# Altium footprint library 新主控制.PcbLib: 56 footprints (part 1 of 4)
Each footprint in its own frame and in the unit in brackets; x right, y up, seen from the top. Pads: shape width x height; smd on the part's side, far side on the other; paste and mask are expansions set on the pad; w line width, h text height; cw(c..) or ccw(c..) is an arc to the next point about the centre after c.
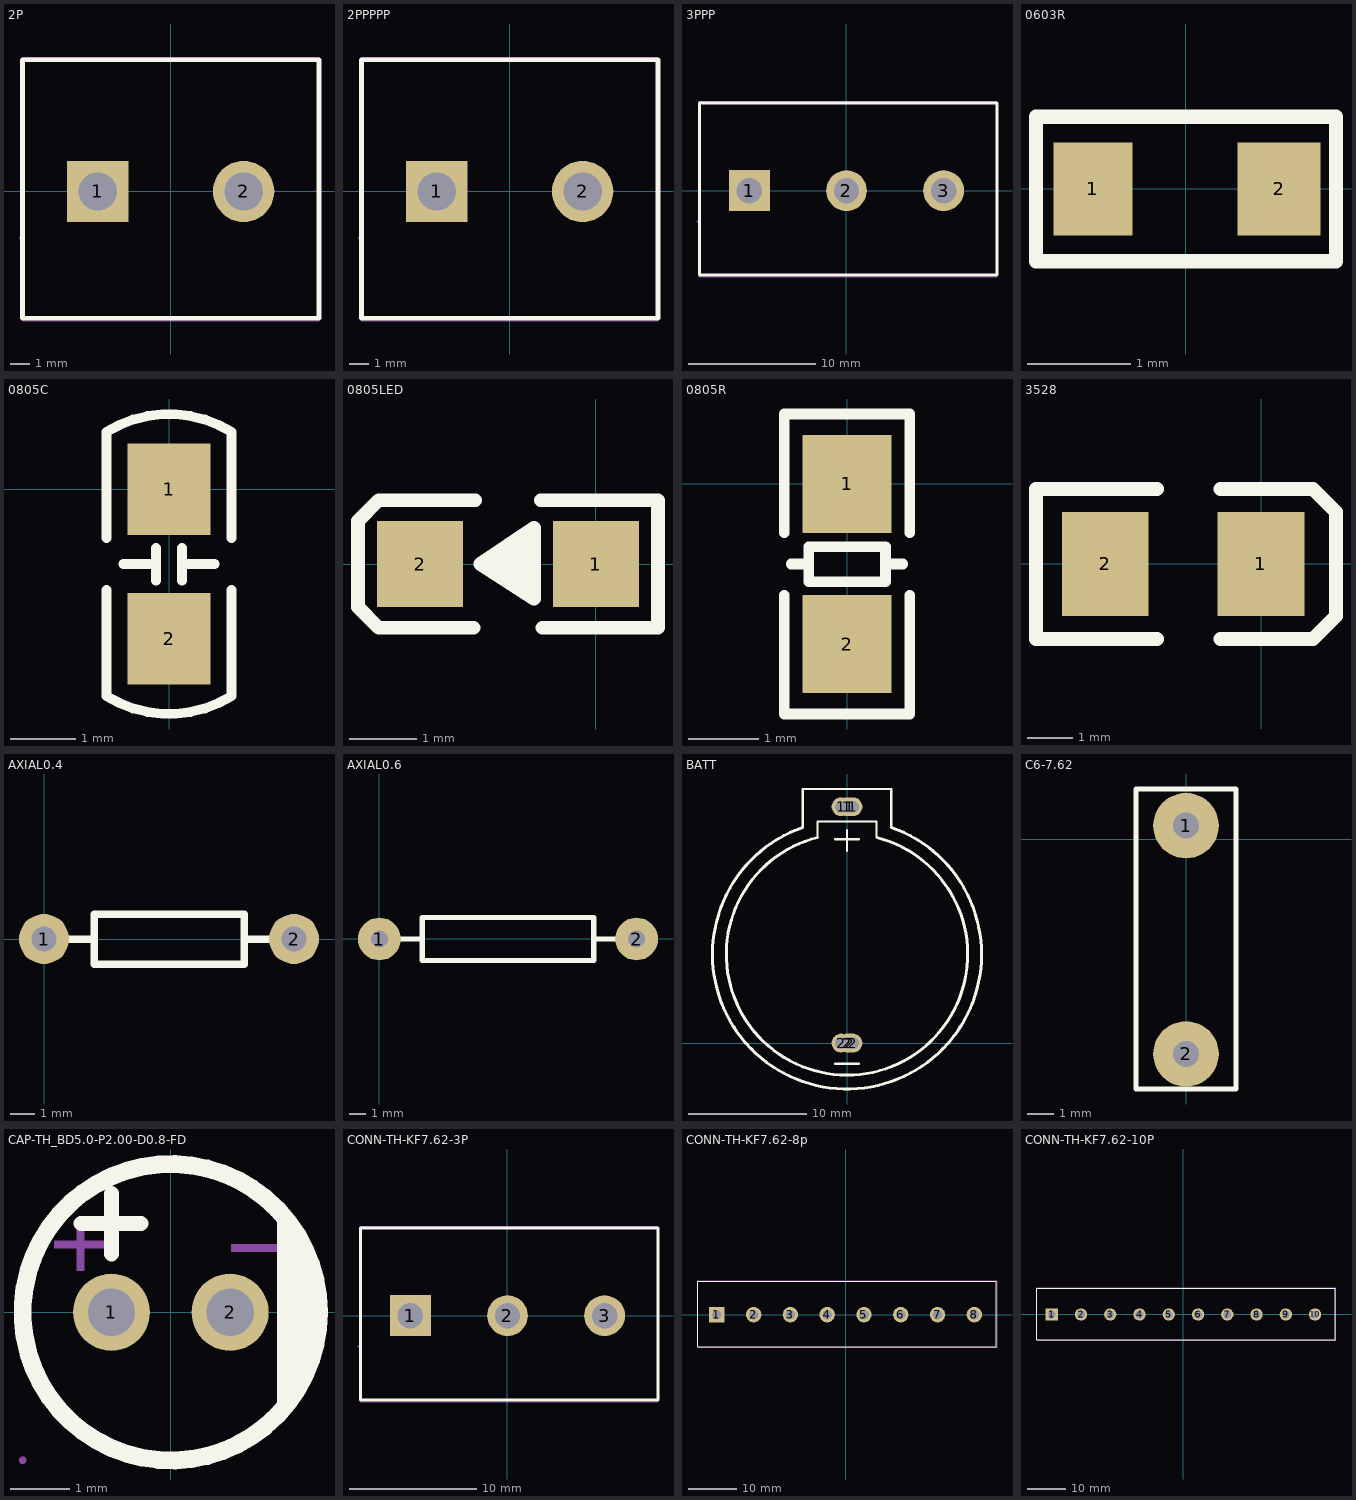
[diagram p0: the footprints below, top view; thin cyan lines are the x and y axes]

## 2P [mm]
height 0.7
pads (2):
  rect 3.21x3.2 hole 2 paste+0 mask+0.051: 1(-3.81,0)
  round 3.2 hole 2 paste+0 mask+0.051: 2(3.81,0)
Top Overlay:
  lines w0.254: -7.735,-6.623 -7.735,6.877 7.747,6.877 7.747,-6.623 -7.735,-6.623
Mechanical 15:
  region: -2.91,0 -2.91,0.118 -2.971,0.347 -3.09,0.553 -3.257,0.72 -3.463,0.839 -3.692,0.9 -3.928,0.9 -4.157,0.839 -4.363,0.72 -4.53,0.553 -4.649,0.347 -4.71,0.118 -4.71,0 -4.71,-0.118 -4.649,-0.347 -4.53,-0.553 -4.363,-0.72 -4.157,-0.839 -3.928,-0.9 -3.692,-0.9 -3.463,-0.839 -3.257,-0.72 -3.09,-0.553 -2.971,-0.347 -2.91,-0.118
  region: 4.71,0 4.71,0.118 4.649,0.347 4.53,0.553 4.363,0.72 4.157,0.839 3.928,0.9 3.692,0.9 3.463,0.839 3.257,0.72 3.09,0.553 2.971,0.347 2.91,0.118 2.91,0 2.91,-0.118 2.971,-0.347 3.09,-0.553 3.257,-0.72 3.463,-0.839 3.692,-0.9 3.928,-0.9 4.157,-0.839 4.363,-0.72 4.53,-0.553 4.649,-0.347 4.71,-0.118
  region: -7.802,-2.432 -7.802,-2.407 -7.837,-2.372 -7.887,-2.372 -7.922,-2.407 -7.922,-2.432 -7.922,-2.457 -7.887,-2.492 -7.837,-2.492 -7.802,-2.457
  lines w0.051: -7.735,-6.75 7.747,-6.75 7.747,7.004 -7.735,7.004 -7.735,-6.75

## 2PPPPP [mm]
pads (2):
  rect 3.21x3.2 hole 2 paste+0 mask+0.051: 1(-3.81,0)
  round 3.2 hole 2 paste+0 mask+0.051: 2(3.81,0)
Top Overlay:
  lines w0.254: -7.735,-6.623 7.747,-6.623 7.747,6.877 -7.735,6.877 -7.735,-6.623
Mechanical 15:
  region: -7.802,-2.432 -7.802,-2.407 -7.837,-2.372 -7.887,-2.372 -7.922,-2.407 -7.922,-2.432 -7.922,-2.457 -7.887,-2.492 -7.837,-2.492 -7.802,-2.457
  region: 4.71,0 4.71,0.118 4.649,0.347 4.53,0.553 4.363,0.72 4.157,0.839 3.928,0.9 3.692,0.9 3.463,0.839 3.257,0.72 3.09,0.553 2.971,0.347 2.91,0.118 2.91,0 2.91,-0.118 2.971,-0.347 3.09,-0.553 3.257,-0.72 3.463,-0.839 3.692,-0.9 3.928,-0.9 4.157,-0.839 4.363,-0.72 4.53,-0.553 4.649,-0.347 4.71,-0.118
  region: -2.91,0 -2.91,0.118 -2.971,0.347 -3.09,0.553 -3.257,0.72 -3.463,0.839 -3.692,0.9 -3.928,0.9 -4.157,0.839 -4.363,0.72 -4.53,0.553 -4.649,0.347 -4.71,0.118 -4.71,0 -4.71,-0.118 -4.649,-0.347 -4.53,-0.553 -4.363,-0.72 -4.157,-0.839 -3.928,-0.9 -3.692,-0.9 -3.463,-0.839 -3.257,-0.72 -3.09,-0.553 -2.971,-0.347 -2.91,-0.118
  lines w0.051: -7.735,-6.75 -7.735,7.004 7.747,7.004 7.747,-6.75 -7.735,-6.75

## 3PPP [mm]
pads (3):
  rect 3.21x3.2 hole 2 paste+0 mask+0.051: 1(-7.62,0)
  round 3.2 hole 2 paste+0 mask+0.051: 2(0,0) 3(7.62,0)
Top Overlay:
  lines w0.254: -11.545,-6.623 -11.545,6.877 11.811,6.877 11.811,-6.623 -11.545,-6.623
Mechanical 15:
  region: -6.72,0 -6.72,0.118 -6.781,0.347 -6.9,0.553 -7.067,0.72 -7.273,0.839 -7.501,0.9 -7.738,0.9 -7.967,0.839 -8.173,0.72 -8.34,0.553 -8.459,0.347 -8.52,0.118 -8.52,0 -8.52,-0.118 -8.459,-0.347 -8.34,-0.553 -8.173,-0.72 -7.967,-0.839 -7.738,-0.9 -7.501,-0.9 -7.273,-0.839 -7.067,-0.72 -6.9,-0.553 -6.781,-0.347 -6.72,-0.118
  region: 0.9,0 0.9,0.118 0.839,0.347 0.72,0.553 0.553,0.72 0.347,0.839 0.119,0.9 -0.118,0.9 -0.347,0.839 -0.553,0.72 -0.72,0.553 -0.839,0.347 -0.9,0.118 -0.9,0 -0.9,-0.118 -0.839,-0.347 -0.72,-0.553 -0.553,-0.72 -0.347,-0.839 -0.118,-0.9 0.119,-0.9 0.347,-0.839 0.553,-0.72 0.72,-0.553 0.839,-0.347 0.9,-0.118
  region: 8.52,0 8.52,0.118 8.459,0.347 8.34,0.553 8.173,0.72 7.967,0.839 7.739,0.9 7.502,0.9 7.273,0.839 7.067,0.72 6.9,0.553 6.781,0.347 6.72,0.118 6.72,0 6.72,-0.118 6.781,-0.347 6.9,-0.553 7.067,-0.72 7.273,-0.839 7.502,-0.9 7.739,-0.9 7.967,-0.839 8.173,-0.72 8.34,-0.553 8.459,-0.347 8.52,-0.118
  region: -11.612,-2.432 -11.612,-2.407 -11.647,-2.372 -11.697,-2.372 -11.732,-2.407 -11.732,-2.432 -11.732,-2.457 -11.697,-2.492 -11.647,-2.492 -11.612,-2.457
  lines w0.051: -11.545,-6.75 11.811,-6.75 11.811,7.004 -11.545,7.004 -11.545,-6.75

## 0603R [mm]
height 0.7
pads (2):
  rect 0.762x0.9 smd: 1(-0.9,0)
  rect 0.8x0.9 smd: 2(0.9,0)
Top Overlay:
  lines w0.14: -1.45,-0.7 -1.45,0.7 1.45,0.7 1.45,-0.7 -1.45,-0.7
3D body "User Library-RES_1609-0603.STEP": height 0.56, standoff 0, extent -0.85,-0.4 0.85,0.4

## 0805C [mm]
height 0.7
pads (2):
  rect 1.27x1.4 smd: 1(0,0) 2(0,-2.286)
Top Overlay:
  lines w0.15: -0.954,-1.54 -0.954,-3.162 ccw(c0,-1.636) 0.954,-3.162 0.954,-1.54 ; -0.954,-0.746 -0.954,0.876 cw(c0,-0.65) 0.954,0.876 0.954,-0.746 ; -0.7,-1.143 -0.2,-1.143 ; -0.2,-1.4 -0.2,-0.9 ; 0.2,-1.4 0.2,-0.9 ; 0.2,-1.143 0.7,-1.143

## 0805LED [mil]
height 27.56
pads (2):
  rect 50x50 smd: 1(0,0) 2(-102,0)
Top Overlay:
  lines w8: -71,-37 -126,-37 -138,-25 -138,25 -126,37 -70,37 ; -36,-11 -47,-6 ; -36,10 -48,10 ; -32,37 36,37 36,-37 -31,-37 ; -48,10 -57,2 -47,-6 ; -48,10 -47,-6 ; -48,10 -36,-4 -47,-6 ; -47,-6 -36,21 ; -36,21 -36,-20 -67,0 -36,21

## 0805R [mm]
height 0.7
pads (2):
  rect 1.27x1.4 smd: 1(0,0) 2(0,-2.286)
Top Overlay:
  lines w0.15: -0.9,-1.586 -0.9,-3.286 0.9,-3.286 0.9,-1.586 ; -0.9,-0.7 -0.9,1 0.9,1 0.9,-0.7 ; -0.8,-1.143 -0.55,-1.143 ; 0.55,-1.143 0.8,-1.143 ; -0.55,-1.4 0.55,-1.4 0.55,-0.9 -0.55,-0.9 -0.55,-1.4

## 3528 [mil]
height 27.56
pads (2):
  rect 75x90 smd: 1(0,0) 2(-135,0)
Top Overlay:
  lines w12: -90,-65 -195,-65 -195,65 -90,65 ; -35,-65 45,-65 65,-45 65,45 45,65 -35,65

## AXIAL0.4 [mil]
height 27.56
pads (2):
  round 80 hole 40: 1(0,0) 2(400,0)
Top Overlay:
  lines w12: 0,0 80,0 ; 320,0 400,0 ; 80,-40 320,-40 320,40 80,40 80,-40

## AXIAL0.6 [mil]
height 27.56
pads (2):
  round 100 hole 40: 1(0.24,-0.44) 2(600.24,-0.44)
Top Overlay:
  lines w12: 40.24,-0.44 100.24,-0.44 ; 500.24,-0.44 560.24,-0.44 ; 100.24,-50.44 500.24,-50.44 500.24,49.56 100.24,49.56 100.24,-50.44

## BATT [mm]
height 0.7
pads (9):
  round 1.6 hole 1: 1(-0.5,20) 1(0,20) 1(0.25,20) 1(0.5,20) 2(-0.5,0) 2(0,0) 2(0,0) 2(0.25,0) 2(0.5,0)
Top Overlay:
  lines w0.203: -3.75,18.25 -3.75,20.5 -3.75,21.5 3.75,21.5 3.75,20.5 3.75,18.25 ; -2.5,18.25 -2.5,17.4 -2.5,18.75 2.5,18.75 2.5,17.5 ; -1,-1.75 1,-1.75 ; -1,17.25 1,17.25 ; 0,16.25 0,18
  lines w0.254: -3.75,18.25 ccw(c0,7.5) 3.75,18.25 ; -2.5,17.4 ccw(c0,7.5) 2.536,17.391

## C6-7.62 [mm]
height 0.7
pads (2):
  round 2.5 hole 1: 1(0,0.51) 2(0,-8.19)
Top Overlay:
  lines w0.203: -1.905,-9.525 1.905,-9.525 1.905,1.905 -1.905,1.905 -1.905,-9.525

## CAP-TH_BD5.0-P2.00-D0.8-FD [mm]
pads (2):
  round 1.3 hole 0.8: 1(-1,0) 2(1,0)
Top Overlay:
  circle w0.3: c0,0 r2.5
  region: 1.794,1.651 1.961,1.491 2.225,1.111 2.407,0.685 2.5,0.231 2.5,-0.231 2.407,-0.685 2.225,-1.111 1.961,-1.491 1.794,-1.651
  lines w0.254: -1.516,1.5 -0.5,1.5 ; -1,0.984 -1,2
Mechanical 6:
  region: -1.969,1.206 -1.08,1.206 -1.08,1.079 -1.969,1.079
  region: -1.588,0.699 -1.588,1.587 -1.461,1.587 -1.46,0.699
  region: 1.016,1.143 1.905,1.143 1.905,1.016 1.016,1.016
Mechanical 15:
  region: -2.44,-2.5 -2.44,-2.475 -2.475,-2.44 -2.525,-2.44 -2.56,-2.475 -2.56,-2.5 -2.56,-2.525 -2.525,-2.56 -2.475,-2.56 -2.44,-2.525 -2.44,-2.5
  region: -0.7,0 -0.701,0.059 -0.748,0.167 -0.832,0.25 -0.941,0.294 -1.059,0.294 -1.168,0.25 -1.252,0.167 -1.299,0.059 -1.3,0 -1.299,-0.059 -1.252,-0.167 -1.168,-0.25 -1.059,-0.294 -0.941,-0.294 -0.832,-0.25 -0.748,-0.167 -0.701,-0.059 -0.7,0
  region: 1.3,0 1.299,0.059 1.252,0.167 1.168,0.25 1.059,0.294 0.941,0.294 0.832,0.25 0.748,0.167 0.701,0.059 0.7,0 0.701,-0.059 0.748,-0.167 0.832,-0.25 0.941,-0.294 1.059,-0.294 1.168,-0.25 1.252,-0.167 1.299,-0.059 1.3,0
  lines w0.051: 0,-2.5 cw(c0,0) -2.5,0 cw(c0,0) 0,2.5 cw(c0,0) 2.5,0 ; 0,-2.5 ccw(c0,0) 2.5,0 ; 0,-2.5 0,-2.5 ; 2.5,0 2.5,0

## CONN-TH-KF7.62-3P [mm]
height 0.7
pads (3):
  rect 3.21x3.2 hole 2 paste+0 mask+0.051: 1(-7.62,0)
  round 3.2 hole 2 paste+0 mask+0.051: 2(0,0) 3(7.62,0)
Top Overlay:
  lines w0.254: -11.545,-6.623 -11.545,6.877 11.811,6.877 11.811,-6.623 -11.545,-6.623
Mechanical 15:
  region: -6.72,0 -6.72,0.118 -6.781,0.347 -6.9,0.553 -7.067,0.72 -7.273,0.839 -7.501,0.9 -7.738,0.9 -7.967,0.839 -8.173,0.72 -8.34,0.553 -8.459,0.347 -8.52,0.118 -8.52,0 -8.52,-0.118 -8.459,-0.347 -8.34,-0.553 -8.173,-0.72 -7.967,-0.839 -7.738,-0.9 -7.501,-0.9 -7.273,-0.839 -7.067,-0.72 -6.9,-0.553 -6.781,-0.347 -6.72,-0.118
  region: 0.9,0 0.9,0.118 0.839,0.347 0.72,0.553 0.553,0.72 0.347,0.839 0.119,0.9 -0.118,0.9 -0.347,0.839 -0.553,0.72 -0.72,0.553 -0.839,0.347 -0.9,0.118 -0.9,0 -0.9,-0.118 -0.839,-0.347 -0.72,-0.553 -0.553,-0.72 -0.347,-0.839 -0.118,-0.9 0.119,-0.9 0.347,-0.839 0.553,-0.72 0.72,-0.553 0.839,-0.347 0.9,-0.118
  region: 8.52,0 8.52,0.118 8.459,0.347 8.34,0.553 8.173,0.72 7.967,0.839 7.739,0.9 7.502,0.9 7.273,0.839 7.067,0.72 6.9,0.553 6.781,0.347 6.72,0.118 6.72,0 6.72,-0.118 6.781,-0.347 6.9,-0.553 7.067,-0.72 7.273,-0.839 7.502,-0.9 7.739,-0.9 7.967,-0.839 8.173,-0.72 8.34,-0.553 8.459,-0.347 8.52,-0.118
  region: -11.612,-2.432 -11.612,-2.407 -11.647,-2.372 -11.697,-2.372 -11.732,-2.407 -11.732,-2.432 -11.732,-2.457 -11.697,-2.492 -11.647,-2.492 -11.612,-2.457
  lines w0.051: -11.545,-6.75 11.811,-6.75 11.811,7.004 -11.545,7.004 -11.545,-6.75

## CONN-TH-KF7.62-8p [mm]
height 0.7
pads (8):
  rect 3.21x3.2 hole 2 paste+0 mask+0.051: 1(-26.67,0)
  round 3.2 hole 2 paste+0 mask+0.051: 2(-19.05,0) 3(-11.43,0) 4(-3.81,0) 5(3.81,0) 6(11.43,0) 7(19.05,0) 8(26.67,0)
Top Overlay:
  lines w0.254: -30.595,-6.623 31.242,-6.623 31.242,6.877 -30.595,6.877 -30.595,-6.623
Mechanical 15:
  drawing of 13 lines, arcs and shapes, not listed

## CONN-TH-KF7.62-10P [mm]
height 0.7
pads (10):
  rect 3.21x3.2 hole 2 paste+0 mask+0.051: 1(-34.29,0)
  round 3.2 hole 2 paste+0 mask+0.051: 2(-26.67,0) 3(-19.05,0) 4(-11.43,0) 5(-3.81,0) 6(3.81,0) 7(11.43,0) 8(19.05,0) 9(26.67,0) 10(34.29,0)
Top Overlay:
  lines w0.254: -38.215,-6.623 39.485,-6.623 39.485,6.877 -38.215,6.877 -38.215,-6.623
Mechanical 15:
  drawing of 15 lines, arcs and shapes, not listed